# Altium footprint library WR-TBL_Wire Protector_10.00mm.PcbLib: 57 footprints (part 2 of 4)
Each footprint in its own frame and in the unit in brackets; x right, y up, seen from the top. Pads: shape width x height; smd on the part's side, far side on the other; paste and mask are expansions set on the pad; w line width, h text height; cw(c..) or ccw(c..) is an arc to the next point about the centre after c.
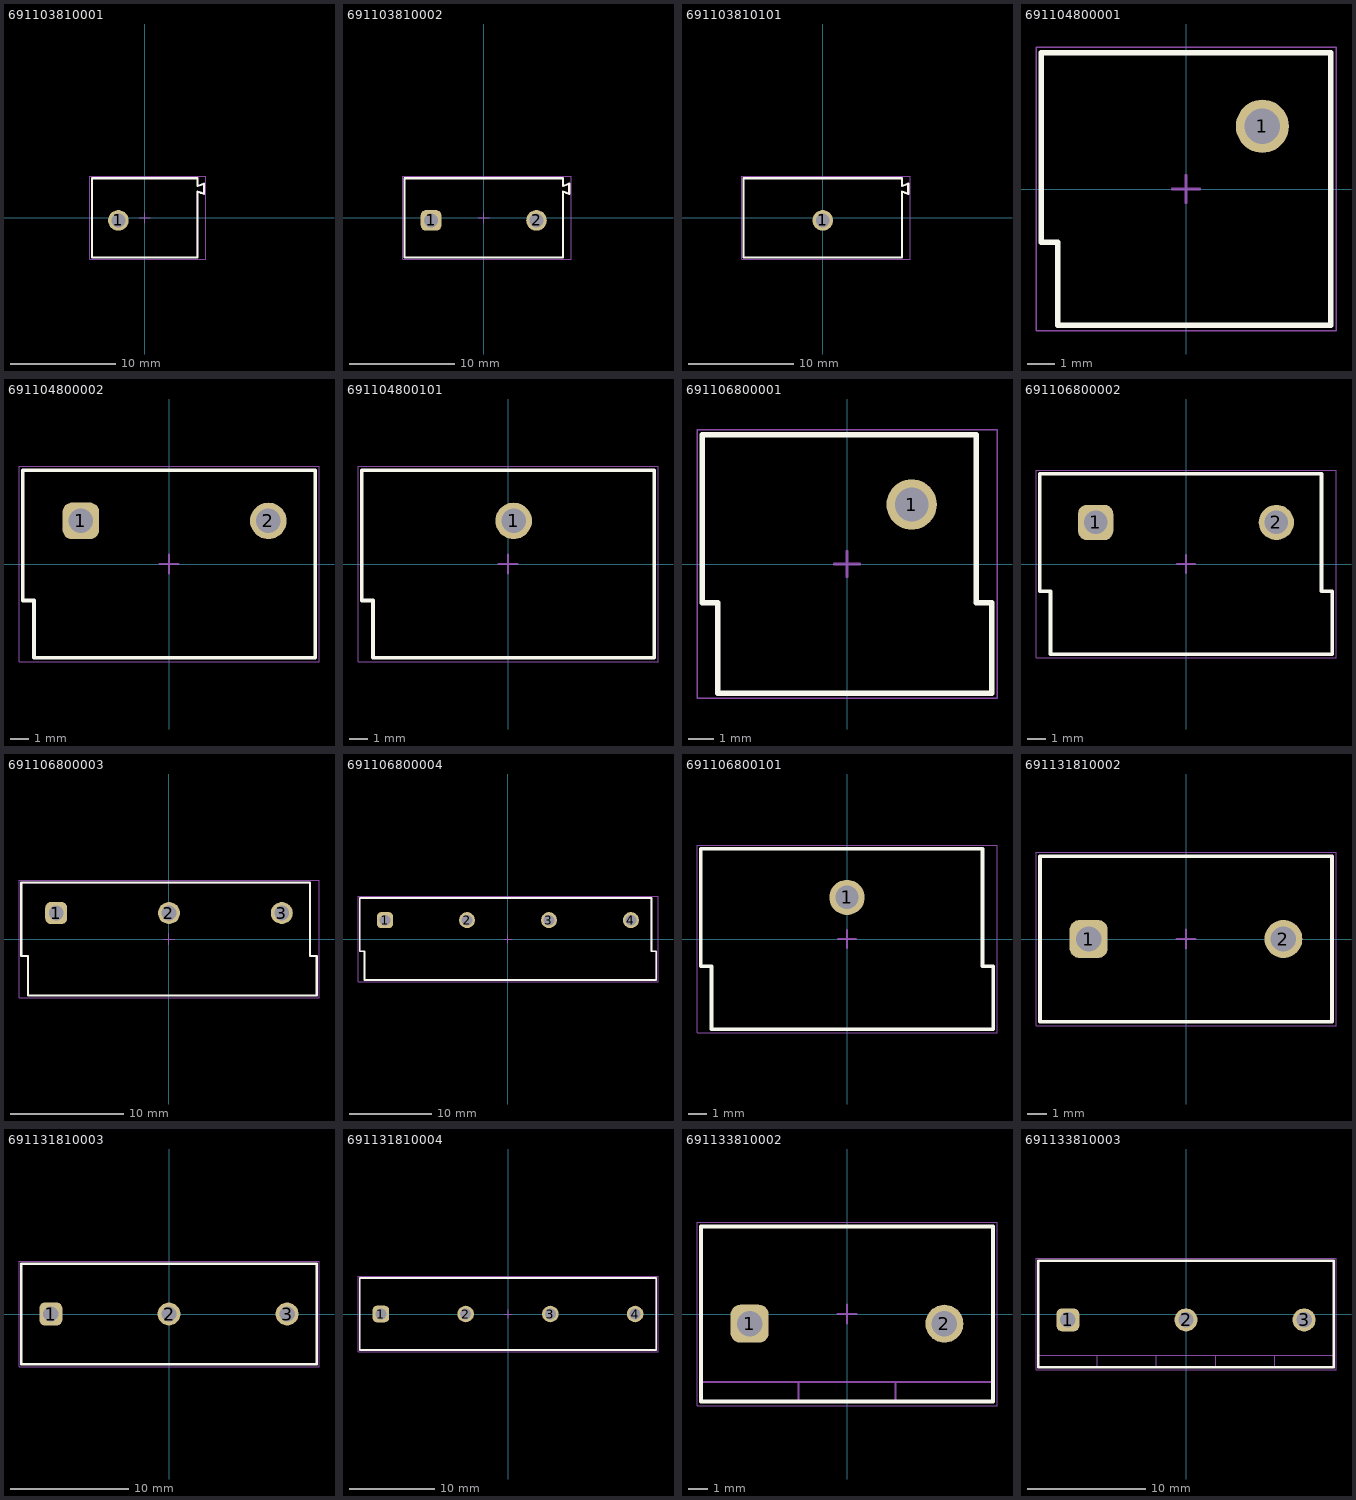
[diagram p1: the footprints below, top view; thin cyan lines are the x and y axes]

## 691103810001 [mm] "Horizontal Cable Entry with Pressure Clamp, pitch 10mm"
height 10
pads (1):
  round 1.95 hole 1.3: 1(-2.5,-0.25)
Top Overlay:
  lines w0.2: 4.998,-3.748 4.998,2.494 cw(c2.595,-4.291) 5.6,2.25 5.6,3.25 ; 5,-3.75 -5,-3.75 -5,3.75 5,3.75 5,3 ccw(c2.5,9.75) 5.599,3.253
Top Assembly:
  lines w0.1: 4.998,-3.748 4.998,2.494 cw(c2.595,-4.291) 5.6,2.25 5.6,3.25 ; 5,-3.75 -5,-3.75 -5,3.75 5,3.75 5,3 ccw(c2.5,9.75) 5.599,3.253
Top Designator:
  text ".Designator" at -3.647,-0.357 h1
Top 3D Body:
  lines w0.1: 4.998,-3.748 4.998,2.494 cw(c2.595,-4.291) 5.6,2.25 5.6,3.25 ; 5,-3.75 -5,-3.75 -5,3.75 5,3.75 5,3 ccw(c2.5,9.75) 5.599,3.253
Top Courtyard:
  lines w0.05: -5.2,-3.95 5.8,-3.95 5.8,3.95 -5.2,3.95 -5.2,-3.95
Top Component Center:
  lines w0.1: -0.5,0 0.5,0 ; 0,-0.5 0,0.5
3D body "691103810001.stp": height 10.1, standoff -3.9, extent -5,-3.75 5.6,3.75

## 691103810002 [mm] "Horizontal Cable Entry with Pressure Clamp, pitch 10mm"
height 10
pads (2):
  rrect50% 1.95x1.95 hole 1.3: 1(-5,-0.25)
  round 1.95 hole 1.3: 2(5,-0.25)
Top Overlay:
  lines w0.2: 7.5,3 7.5,3.75 -7.5,3.75 -7.5,-3.75 7.5,-3.75 7.5,2.494 cw(c5.097,-4.291) 8.102,2.25 8.102,3.25 ; 7.502,3 ccw(c5.002,9.75) 8.101,3.253
Top Assembly:
  lines w0.1: 7.5,3 7.5,3.75 -7.5,3.75 -7.5,-3.75 7.5,-3.75 7.5,2.494 cw(c5.097,-4.291) 8.102,2.25 8.102,3.25 ; 7.502,3 ccw(c5.002,9.75) 8.101,3.253
Top Designator:
  text ".Designator" at -3.647,-0.357 h1
Top 3D Body:
  lines w0.1: 7.5,3 7.5,3.75 -7.5,3.75 -7.5,-3.75 7.5,-3.75 7.5,2.494 cw(c5.097,-4.291) 8.102,2.25 8.102,3.25 ; 7.502,3 ccw(c5.002,9.75) 8.101,3.253
Top Courtyard:
  lines w0.05: -7.7,-3.95 8.3,-3.95 8.3,3.95 -7.7,3.95 -7.7,-3.95
Top Component Center:
  lines w0.1: -0.5,0 0.5,0 ; 0,-0.5 0,0.5
3D body "691103810002.stp": height 10.1, standoff -3.9, extent -7.5,-3.75 8.1,3.75

## 691103810101 [mm] "Horizontal Cable Entry with Pressure Clamp, pitch 10mm"
height 10
pads (1):
  round 1.95 hole 1.3: 1(0,-0.25)
Top Overlay:
  lines w0.2: 7.5,3 7.5,3.75 -7.5,3.75 -7.5,-3.75 7.5,-3.75 7.5,2.494 cw(c5.097,-4.291) 8.102,2.25 8.102,3.25 ; 7.502,3 ccw(c5.002,9.75) 8.101,3.253
Top Assembly:
  lines w0.1: 7.5,3 7.5,3.75 -7.5,3.75 -7.5,-3.75 7.5,-3.75 7.5,2.494 cw(c5.097,-4.291) 8.102,2.25 8.102,3.25 ; 7.502,3 ccw(c5.002,9.75) 8.101,3.253
Top Designator:
  text ".Designator" at -3.647,-0.357 h1
Top 3D Body:
  lines w0.1: 7.5,3 7.5,3.75 -7.5,3.75 -7.5,-3.75 7.5,-3.75 7.5,2.494 cw(c5.097,-4.291) 8.102,2.25 8.102,3.25 ; 7.502,3 ccw(c5.002,9.75) 8.101,3.253
Top Courtyard:
  lines w0.05: -7.7,-3.95 -7.7,3.95 8.3,3.95 8.3,-3.95 -7.7,-3.95
Top Component Center:
  lines w0.1: -0.5,0 0.5,0 ; 0,-0.5 0,0.5
3D body "691103810101.stp": height 10.1, standoff -3.9, extent -7.5,-3.75 8.1,3.75

## 691104800001 [mm] "Vertical Cable Entry with Pressure Clamp, pitch 10mm"
height 7.5
pads (1):
  round 1.95 hole 1.3: 1(2.8,2.3)
Top Overlay:
  lines w0.2: -5.3,-1.95 -5.3,5 5.3,5 5.3,-5 -4.7,-5 -4.7,-1.95 -5.3,-1.95
Top Assembly:
  lines w0.1: -5.3,-1.95 -4.7,-1.95 -4.7,-5 5.3,-5 5.3,5 -5.3,5 -5.3,-1.95
Top Designator:
  text ".Designator" at -3.647,-0.357 h1
Top 3D Body:
  lines w0.1: -5.3,-1.95 -5.3,5 5.3,5 5.3,-5 -4.7,-5 -4.7,-1.95 -5.3,-1.95
Top Courtyard:
  lines w0.05: -5.5,-5.2 -5.5,5.2 5.5,5.2 5.5,-5.2 -5.5,-5.2
Top Component Center:
  lines w0.1: -0.5,0 0.5,0 ; 0,-0.5 0,0.5
3D body "691104800001.stp": height 7.55, standoff -3.65, extent -5.3,-5 5.3,5

## 691104800002 [mm] "Vertical Cable Entry with Pressure Clamp, pitch 10mm"
height 7.5
pads (2):
  rrect50% 1.95x1.95 hole 1.3: 1(-4.7,2.3)
  round 1.95 hole 1.3: 2(5.3,2.3)
Top Overlay:
  lines w0.2: -7.8,-1.95 -7.2,-1.95 -7.2,-5 7.8,-5 7.8,5 -7.8,5 -7.8,-1.95
Top Assembly:
  lines w0.1: -7.8,-1.95 -7.8,5 7.8,5 7.8,-5 -7.2,-5 -7.2,-1.95 -7.8,-1.95
Top Designator:
  text ".Designator" at -3.647,-0.357 h1
Top 3D Body:
  lines w0.1: -7.8,-1.95 -7.2,-1.95 -7.2,-5 7.8,-5 7.8,5 -7.8,5 -7.8,-1.95
Top Courtyard:
  lines w0.05: -8,-5.2 8,-5.2 8,5.2 -8,5.2 -8,-5.2
Top Component Center:
  lines w0.1: -0.5,0 0.5,0 ; 0,-0.5 0,0.5
3D body "691104800002.stp": height 7.55, standoff -3.65, extent -7.8,-5 7.8,5

## 691104800101 [mm] "Vertical Cable Entry with Pressure Clamp, pitch 10mm"
height 7.5
pads (1):
  round 1.95 hole 1.3: 1(0.3,2.3)
Top Overlay:
  lines w0.2: -7.8,-1.95 -7.8,5 7.8,5 7.8,-5 -7.2,-5 -7.2,-1.95 -7.8,-1.95
Top Assembly:
  lines w0.1: -7.8,-1.95 -7.2,-1.95 -7.2,-5 7.8,-5 7.8,5 -7.8,5 -7.8,-1.95
Top Designator:
  text ".Designator" at -3.647,-0.357 h1
Top 3D Body:
  lines w0.1: -7.8,-1.95 -7.8,5 7.8,5 7.8,-5 -7.2,-5 -7.2,-1.95 -7.8,-1.95
Top Courtyard:
  lines w0.05: -8,-5.2 -8,5.2 8,5.2 8,-5.2 -8,-5.2
Top Component Center:
  lines w0.1: -0.5,0 0.5,0 ; 0,-0.5 0,0.5
3D body "691104800101.stp": height 7.55, standoff -3.65, extent -7.8,-5 7.8,5

## 691106800001 [mm] "10mm Horizontal Entry Modular with Pressure Clamp, 1p"
height 7.5
pads (1):
  round 1.95 hole 1.3: 1(2.5,2.3)
Top Overlay:
  lines w0.2: -5.6,-1.5 -5,-1.5 -5,-5 5.6,-5 5.6,-1.5 5,-1.5 5,5 -5.6,5 -5.6,-1.5
Top Assembly:
  lines w0.1: -5.6,-1.5 -5,-1.5 -5,-5 5.6,-5 5.6,-1.5 5,-1.5 5,5 -5.6,5 -5.6,-1.5
Top Designator:
  text ".Designator" at -3.647,-0.357 h1
Top 3D Body:
  lines w0.1: -5.6,-1.5 -5.6,5 5,5 5,-1.5 5.6,-1.5 5.6,-5 -5,-5 -5,-1.5 -5.6,-1.5
Top Courtyard:
  lines w0.05: -5.8,-5.2 5.8,-5.2 5.8,5.2 -5.8,5.2 -5.8,-5.2
Top Component Center:
  lines w0.1: -0.5,0 0.5,0 ; 0,-0.5 0,0.5
3D body "691106800001.stp": height 7.55, standoff -3.75, extent -5.6,-5 5.6,5

## 691106800002 [mm] "10mm Horizontal Entry Modular with Pressure Clamp, 2p"
height 7.5
pads (2):
  rrect50% 1.95x1.95 hole 1.3: 1(-5,2.3)
  round 1.95 hole 1.3: 2(5,2.3)
Top Overlay:
  lines w0.2: -8.1,-1.5 -8.1,5 7.5,5 7.5,-1.5 8.1,-1.5 8.1,-5 -7.5,-5 -7.5,-1.5 -8.1,-1.5
Top Assembly:
  lines w0.1: -8.1,-1.5 -8.1,5 7.5,5 7.5,-1.5 8.1,-1.5 8.1,-5 -7.5,-5 -7.5,-1.5 -8.1,-1.5
Top Designator:
  text ".Designator" at -3.647,-0.357 h1
Top 3D Body:
  lines w0.1: -8.1,-1.5 -7.5,-1.5 -7.5,-5 8.1,-5 8.1,-1.5 7.5,-1.5 7.5,5 -8.1,5 -8.1,-1.5
Top Courtyard:
  lines w0.05: -8.3,-5.2 8.3,-5.2 8.3,5.2 -8.3,5.2 -8.3,-5.2
Top Component Center:
  lines w0.1: -0.5,0 0.5,0 ; 0,-0.5 0,0.5
3D body "691106800002.stp": height 7.55, standoff -3.75, extent -8.1,-5 8.1,5

## 691106800003 [mm] "10mm Horizontal Entry Modular with Pressure Clamp, 3p"
height 7.5
pads (3):
  rrect50% 1.95x1.95 hole 1.3: 1(-10,2.3)
  round 1.95 hole 1.3: 2(0,2.3) 3(10,2.3)
Top Overlay:
  lines w0.2: -13.1,-1.5 -12.5,-1.5 -12.5,-5 13.1,-5 13.1,-1.5 12.5,-1.5 12.5,5 -13.1,5 -13.1,-1.5
Top Assembly:
  lines w0.1: -13.1,-1.5 -12.5,-1.5 -12.5,-5 13.1,-5 13.1,-1.5 12.5,-1.5 12.5,5 -13.1,5 -13.1,-1.5
Top Designator:
  text ".Designator" at -3.647,-0.357 h1
Top 3D Body:
  lines w0.1: -13.1,-1.5 -13.1,5 12.5,5 12.5,-1.5 13.1,-1.5 13.1,-5 -12.5,-5 -12.5,-1.5 -13.1,-1.5
Top Courtyard:
  lines w0.05: -13.3,-5.2 -13.3,5.2 13.3,5.2 13.3,-5.2 -13.3,-5.2
Top Component Center:
  lines w0.1: -0.5,0 0.5,0 ; 0,-0.5 0,0.5
3D body "691106800003.stp": height 7.55, standoff -3.75, extent -13.1,-5 13.1,5

## 691106800004 [mm] "10mm Horizontal Entry Modular with Pressure Clamp, 4p"
height 7.5
pads (4):
  rrect50% 1.95x1.95 hole 1.3: 1(-15,2.3)
  round 1.95 hole 1.3: 2(-5,2.3) 3(5,2.3) 4(15,2.3)
Top Overlay:
  lines w0.2: -18.1,-1.5 -17.5,-1.5 -17.5,-5 18.1,-5 18.1,-1.5 17.5,-1.5 17.5,5 -18.1,5 -18.1,-1.5
Top Assembly:
  lines w0.1: -18.1,-1.5 -17.5,-1.5 -17.5,-5 18.1,-5 18.1,-1.5 17.5,-1.5 17.5,5 -18.1,5 -18.1,-1.5
Top Designator:
  text ".Designator" at -3.647,-0.357 h1
Top 3D Body:
  lines w0.1: -18.1,-1.5 -18.1,5 17.5,5 17.5,-1.5 18.1,-1.5 18.1,-5 -17.5,-5 -17.5,-1.5 -18.1,-1.5
Top Courtyard:
  lines w0.05: -18.3,-5.2 -18.3,5.2 18.3,5.2 18.3,-5.2 -18.3,-5.2
Top Component Center:
  lines w0.1: -0.5,0 0.5,0 ; 0,-0.5 0,0.5
3D body "691106800004.stp": height 7.55, standoff -3.75, extent -18.1,-5 18.1,5

## 691106800101 [mm] "10mm Horizontal Entry Modular with Pressure Clamp, 1p"
height 7.5
pads (1):
  round 1.95 hole 1.3: 1(0,2.3)
Top Overlay:
  lines w0.2: -8.1,-1.5 -7.5,-1.5 -7.5,-5 8.1,-5 8.1,-1.5 7.5,-1.5 7.5,5 -8.1,5 -8.1,-1.5
Top Assembly:
  lines w0.1: -8.1,-1.5 -7.5,-1.5 -7.5,-5 8.1,-5 8.1,-1.5 7.5,-1.5 7.5,5 -8.1,5 -8.1,-1.5
Top Designator:
  text ".Designator" at -3.647,-0.357 h1
Top 3D Body:
  lines w0.1: -8.1,-1.5 -8.1,5 7.5,5 7.5,-1.5 8.1,-1.5 8.1,-5 -7.5,-5 -7.5,-1.5 -8.1,-1.5
Top Courtyard:
  lines w0.05: -8.3,-5.2 -8.3,5.2 8.3,5.2 8.3,-5.2 -8.3,-5.2
Top Component Center:
  lines w0.1: -0.5,0 0.5,0 ; 0,-0.5 0,0.5
3D body "691106800101.stp": height 7.55, standoff -3.75, extent -8.1,-5 8.1,5

## 691131810002 [mm] "Serie 1318 - 10.00 mm _2 pins"
height 15.5
pads (2):
  rrect50% 1.95x1.95 hole 1.3: 1(-5,0)
  round 1.95 hole 1.3: 2(5,0)
Top Overlay:
  lines w0.2: -7.5,-4.25 -7.5,4.25 7.5,4.25 7.5,-4.25 -7.5,-4.25
Top Assembly:
  lines w0.1: -7.5,-4.25 7.5,-4.25 7.5,4.25 -7.5,4.25 -7.5,-4.25
Top Designator:
  text ".Designator" at -3.647,-0.357 h1
Top 3D Body:
  lines w0.1: -7.5,-4.25 -7.5,4.25 7.5,4.25 7.5,-4.25 -7.5,-4.25
Top Courtyard:
  lines w0.05: -7.7,-4.45 7.7,-4.45 7.7,4.45 -7.7,4.45 -7.7,-4.45
Top Component Center:
  lines w0.1: -0.5,0 0.5,0 ; 0,-0.5 0,0.5
3D body "691131810002.stp": height 15.55, standoff -4.4, extent -7.5,-4.25 7.5,4.25

## 691131810003 [mm] "Serie 1318 - 10.00 mm _3 pins"
height 15.5
pads (3):
  rrect50% 1.95x1.95 hole 1.3: 1(-10,0)
  round 1.95 hole 1.3: 2(0,0) 3(10,0)
Top Overlay:
  lines w0.2: -12.5,-4.25 12.5,-4.25 12.5,4.25 -12.5,4.25 -12.5,-4.25
Top Assembly:
  lines w0.1: -12.5,-4.25 -12.5,4.25 12.5,4.25 12.5,-4.25 -12.5,-4.25
Top Designator:
  text ".Designator" at -3.647,-0.357 h1
Top 3D Body:
  lines w0.1: -12.5,-4.25 12.5,-4.25 12.5,4.25 -12.5,4.25 -12.5,-4.25
Top Courtyard:
  lines w0.05: -12.7,-4.45 -12.7,4.45 12.7,4.45 12.7,-4.45 -12.7,-4.45
Top Component Center:
  lines w0.1: -0.5,0 0.5,0 ; 0,-0.5 0,0.5
3D body "691131810003.stp": height 15.55, standoff -4.4, extent -12.5,-4.25 12.5,4.25

## 691131810004 [mm] "Serie 1318 - 10.00 mm _4 pins"
height 15.5
pads (4):
  rrect50% 1.95x1.95 hole 1.3: 1(-15,0)
  round 1.95 hole 1.3: 2(-5,0) 3(5,0) 4(15,0)
Top Overlay:
  lines w0.2: -17.5,-4.25 -17.5,4.25 17.5,4.25 17.5,-4.25 -17.5,-4.25
Top Assembly:
  lines w0.1: -17.5,-4.25 17.5,-4.25 17.5,4.25 -17.5,4.25 -17.5,-4.25
Top Designator:
  text ".Designator" at -3.647,-0.357 h1
Top 3D Body:
  lines w0.1: -17.5,-4.25 -17.5,4.25 17.5,4.25 17.5,-4.25 -17.5,-4.25
Top Courtyard:
  lines w0.05: -17.7,-4.45 17.7,-4.45 17.7,4.45 -17.7,4.45 -17.7,-4.45
Top Component Center:
  lines w0.1: -0.5,0 0.5,0 ; 0,-0.5 0,0.5
3D body "691131810004.stp": height 15.55, standoff -4.4, extent -17.5,-4.25 17.5,4.25

## 691133810002 [mm] "Serie 1338 - 10.00 mm_2 pins"
height 13
pads (2):
  rrect50% 1.95x1.95 hole 1.3: 1(-5,-0.5)
  round 1.95 hole 1.3: 2(5,-0.5)
Top Overlay:
  lines w0.2: -7.5,-4.5 7.5,-4.5 7.5,4.5 -7.5,4.5 -7.5,-4.5
Top Assembly:
  lines w0.1: -7.5,-3.5 7.5,-3.5 ; -2.5,-4.5 -2.5,-3.5 ; 2.5,-4.5 2.5,-3.5 ; -7.5,-4.5 -7.5,4.5 7.5,4.5 7.5,-4.5 -7.5,-4.5
Top Designator:
  text ".Designator" at -3.647,-0.357 h1
Top 3D Body:
  lines w0.1: -7.5,-3.5 7.5,-3.5 ; -2.5,-4.5 -2.5,-3.5 ; 2.5,-4.5 2.5,-3.5 ; -7.5,-4.5 7.5,-4.5 7.5,4.5 -7.5,4.5 -7.5,-4.5
Top Courtyard:
  lines w0.05: -7.7,-4.7 7.7,-4.7 7.7,4.7 -7.7,4.7 -7.7,-4.7
Top Component Center:
  lines w0.1: -0.5,0 0.5,0 ; 0,-0.5 0,0.5
3D body "691133810002.stp": height 13.1, standoff -3.5, extent -7.5,-4.5 7.5,4.5

## 691133810003 [mm] "Serie 1338 - 10.00 mm_3 pins"
height 13
pads (3):
  rrect50% 1.95x1.95 hole 1.3: 1(-10,-0.5)
  round 1.95 hole 1.3: 2(0,-0.5) 3(10,-0.5)
Top Overlay:
  lines w0.2: -12.5,-4.5 -12.5,4.5 12.5,4.5 12.5,-4.5 -12.5,-4.5
Top Assembly:
  lines w0.1: -12.5,-3.5 12.5,-3.5 ; -7.5,-4.5 -7.5,-3.5 ; -2.5,-4.5 -2.5,-3.5 ; 2.5,-4.5 2.5,-3.5 ; 7.5,-4.5 7.5,-3.5 ; -12.5,-4.5 12.5,-4.5 12.5,4.5 -12.5,4.5 -12.5,-4.5
Top Designator:
  text ".Designator" at -3.647,-0.357 h1
Top 3D Body:
  lines w0.1: -12.5,-3.5 12.5,-3.5 ; -7.5,-4.5 -7.5,-3.5 ; -2.5,-4.5 -2.5,-3.5 ; 2.5,-4.5 2.5,-3.5 ; 7.5,-4.5 7.5,-3.5 ; -12.5,-4.5 -12.5,4.5 12.5,4.5 12.5,-4.5 -12.5,-4.5
Top Courtyard:
  lines w0.05: -12.7,-4.7 -12.7,4.7 12.7,4.7 12.7,-4.7 -12.7,-4.7
Top Component Center:
  lines w0.1: -0.5,0 0.5,0 ; 0,-0.5 0,0.5
3D body "691133810003.stp": height 13.1, standoff -3.5, extent -12.5,-4.5 12.5,4.5